# Altium schematic symbol library Schlib1.SchLib: 7 symbols
Pins are listed as number, name and electrical type; pins without a type are passive.

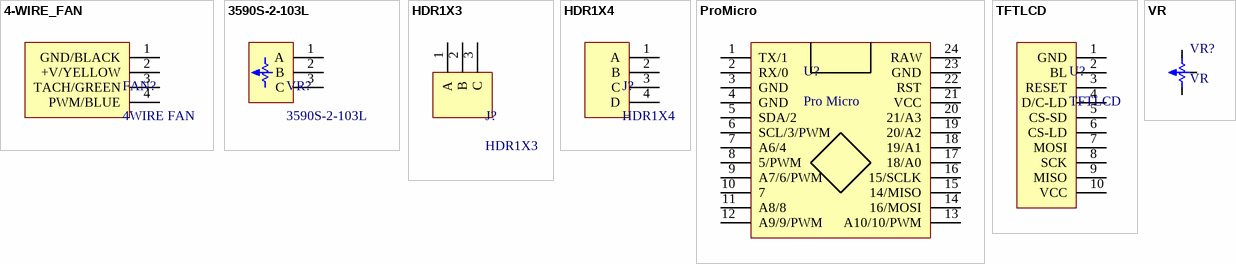
[diagram p0: symbols 4-WIRE_FAN to VR]

## 4-WIRE_FAN
designator FAN?, comment 4WIRE FAN
footprint WR-WTB 2,54mm 1X4 (WR-WTB 2.54 mm Male Locking Header)
pins: 1 GND/BLACK, 2 +V/YELLOW, 3 TACH/GREEN, 4 PWM/BLUE

## 3590S-2-103L
designator VR?
footprint WR-WTB 2,54mm 1X3 (WR-WTB 2,54mm)
pins: 1 A, 2 B, 3 C

## HDR1X3
designator J?
footprint WR-WTB 2,54mm 1X3 (WR-WTB 2,54mm)
pins: 1 A, 2 B, 3 C

## HDR1X4
designator J?
footprint WR-WTB 2,54mm 1X4 (WR-WTB 2.54 mm Male Locking Header)
pins: 1 A, 2 B, 3 C, 4 D

## ProMicro
designator U?, comment Pro Micro
footprint ProMicro
pins: 1 TX/1, 2 RX/0, 3 GND, 4 GND, 5 SDA/2, 6 SCL/3/PWM, 7 A6/4, 8 5/PWM, 9 A7/6/PWM, 10 7, 11 A8/8, 12 A9/9/PWM, 13 A10/10/PWM, 14 16/MOSI, 15 14/MISO, 16 15/SCLK, 17 18/A0, 18 19/A1, 19 20/A2, 20 21/A3, 21 VCC, 22 RST, 23 GND, 24 RAW

## TFTLCD
designator U?
footprint TFTLCD
pins: 1 GND, 2 BL, 3 RESET, 4 D/C-LD, 5 CS-SD, 6 CS-LD, 7 MOSI, 8 SCK, 9 MISO, 10 VCC

## VR
designator VR?
footprint VR_3296W
footprint VR_POT_3362P
pins: 1, 2, 3